# EAGLE library part PCM5122 (library ICs)
The PCM512x devices are a family of monolithic CMOS-integrated circuits that include a stereo digitalto-analog converter.
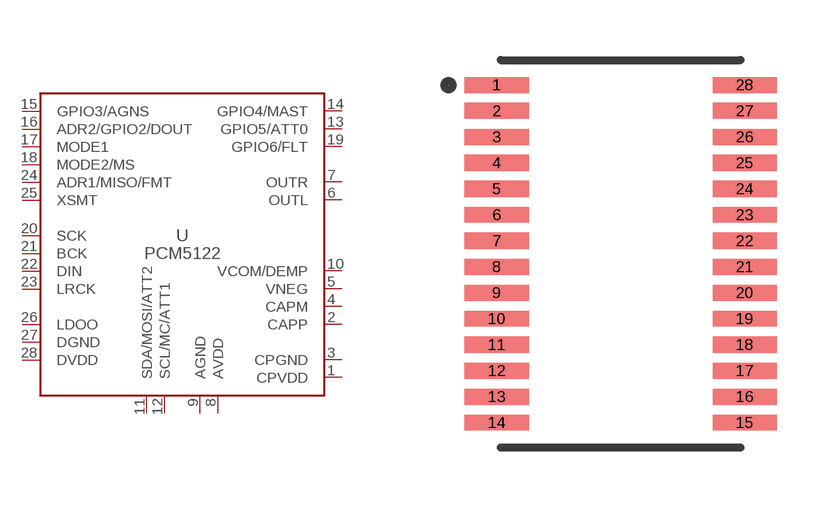
[diagram p16: symbol with the pads of TSSOP28; footprint TSSOP28]

Designator prefix -

## PCM5122 (MFG: Texas Instruments; PN: PCM5122PW; VALUE: PCM5122)  [TSSOP28]
1  CPVDD  pwr
2  CAPP  out
3  CPGND
4  CAPM  out
5  VNEG  out
6  OUTL  out
7  OUTR  out
8  AVDD  pwr
9  AGND
10  VCOM/DEMP  in
11  SDA/MOSI/ATT2
12  SCL/MC/ATT1
13  GPIO5/ATT0
14  GPIO4/MAST
15  GPIO3/AGNS
16  ADR2/GPIO2/DOUT
17  MODE1
18  MODE2/MS
19  GPIO6/FLT  in
20  SCK  in
21  BCK  in
22  DIN  in
23  LRCK  in
24  ADR1/MISO/FMT  in
25  XSMT  in
26  LDOO  pwr
27  DGND
28  DVDD  pwr

## Footprint TSSOP28 (pad centres in mm)
smd 1.6 x 0.4: 1 -3.1,4.225; 2 -3.1,3.575; 3 -3.1,2.925; 4 -3.1,2.275; 5 -3.1,1.625; 6 -3.1,0.975; 7 -3.1,0.325; 8 -3.1,-0.325; 9 -3.1,-0.975; 10 -3.1,-1.625; 11 -3.1,-2.275; 12 -3.1,-2.925; 13 -3.1,-3.575; 14 -3.1,-4.225; 15 3.1,-4.225; 16 3.1,-3.575; 17 3.1,-2.925; 18 3.1,-2.275; 19 3.1,-1.625; 20 3.1,-0.975; 21 3.1,-0.325; 22 3.1,0.325; 23 3.1,0.975; 24 3.1,1.625; 25 3.1,2.275; 26 3.1,2.925; 27 3.1,3.575; 28 3.1,4.225